# EAGLE library part ATTINY85_8PINS_8BIT_8KB_20MHZ (library MrSwirlyEyes)
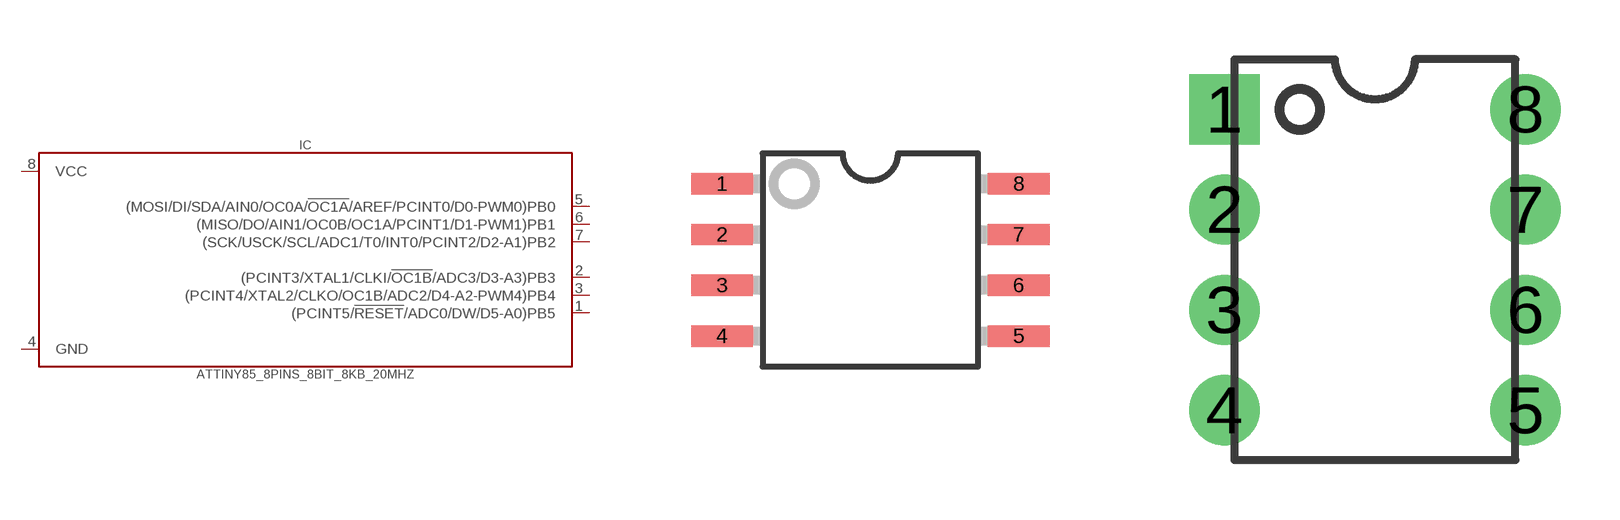
[diagram p5: symbol with the pads of SO-8; footprints SO-8, DIP-8]

Designator prefix IC

## ATTINY85_8PINS_8BIT_8KB_20MHZATTINY85_SO-8 (CREATOR: MrSwirlyEyes; DATASHEET: http://www.atmel.com/Images/Atmel-2586-AVR-8-bit-Microcontroller-ATtiny25-ATtiny45-ATtiny85_Datasheet.pdf; DIST: Digikey; DISTLINK: https://www.digikey.com/products/en?keywords=ATTINY85-20SU-ND; DISTPN: ATTINY85-20SU-ND; MFR: Microchip Technology; MPN: ATTINY85-20SU; TESTED: NO; VALUE: ATTINY85)  [SO-8]
1  (PCINT5/!RESET!/ADC0/DW/D5-A0)PB5
2  (PCINT3/XTAL1/CLKI/!OC1B!/ADC3/D3-A3)PB3
3  (PCINT4/XTAL2/CLKO/OC1B/ADC2/D4-A2-PWM4)PB4
4  GND
5  (MOSI/DI/SDA/AIN0/OC0A/!OC1A!/AREF/PCINT0/D0-PWM0)PB0
6  (MISO/DO/AIN1/OC0B/OC1A/PCINT1/D1-PWM1)PB1
7  (SCK/USCK/SCL/ADC1/T0/INT0/PCINT2/D2-A1)PB2
8  VCC

## ATTINY85_8PINS_8BIT_8KB_20MHZATTINY85_DIP-8 (CREATOR: MrSwirlyEyes; DATASHEET: http://www.atmel.com/Images/Atmel-2586-AVR-8-bit-Microcontroller-ATtiny25-ATtiny45-ATtiny85_Datasheet.pdf; DATASHEET_CONNECTOR: http://www.assmann-wsw.com/fileadmin/datasheets/ASS_0810_CO.pdf; DIST: Digikey; DISTLINK: https://www.digikey.com/products/en?keywords=ATTINY85-20PU-ND; DISTLINK_CONNECTOR: https://www.digikey.com/products/en?keywords=AE9986-ND; DISTPN: ATTINY85-20PU-ND; DISTPN_CONNECTOR: AE9986-ND; DIST_CONNECTOR: Digikey; MFR: Microchip Technology; MFR_CONNECTOR: Assmann WSW Components; MPN: ATTINY85-20PU; MPN_CONNECTOR: A 08-LC-TT; TESTED: NO; VALUE: ATTINY85)  [DIP-8]
Pads as for SO-8

## Footprint SO-8 (pad centres in mm)
smd 1.549 x 0.533: 1 -3.708,1.905; 2 -3.708,0.635; 3 -3.708,-0.635; 4 -3.708,-1.905; 5 3.708,-1.905; 6 3.708,-0.635; 7 3.708,0.635; 8 3.708,1.905

## Footprint DIP-8 (pad centres in mm)
drill 0.813 pad 1.778 square: 1 -3.81,3.81
drill 0.813 pad 1.778: 2 -3.81,1.27; 3 -3.81,-1.27; 4 -3.81,-3.81; 5 3.81,-3.81; 6 3.81,-1.27; 7 3.81,1.27; 8 3.81,3.81